# Altium footprint library liba.PcbLib: 7 footprints
Each footprint in its own frame and in the unit in brackets; x right, y up, seen from the top. Pads: shape width x height; smd on the part's side, far side on the other; paste and mask are expansions set on the pad; w line width, h text height; cw(c..) or ccw(c..) is an arc to the next point about the centre after c.
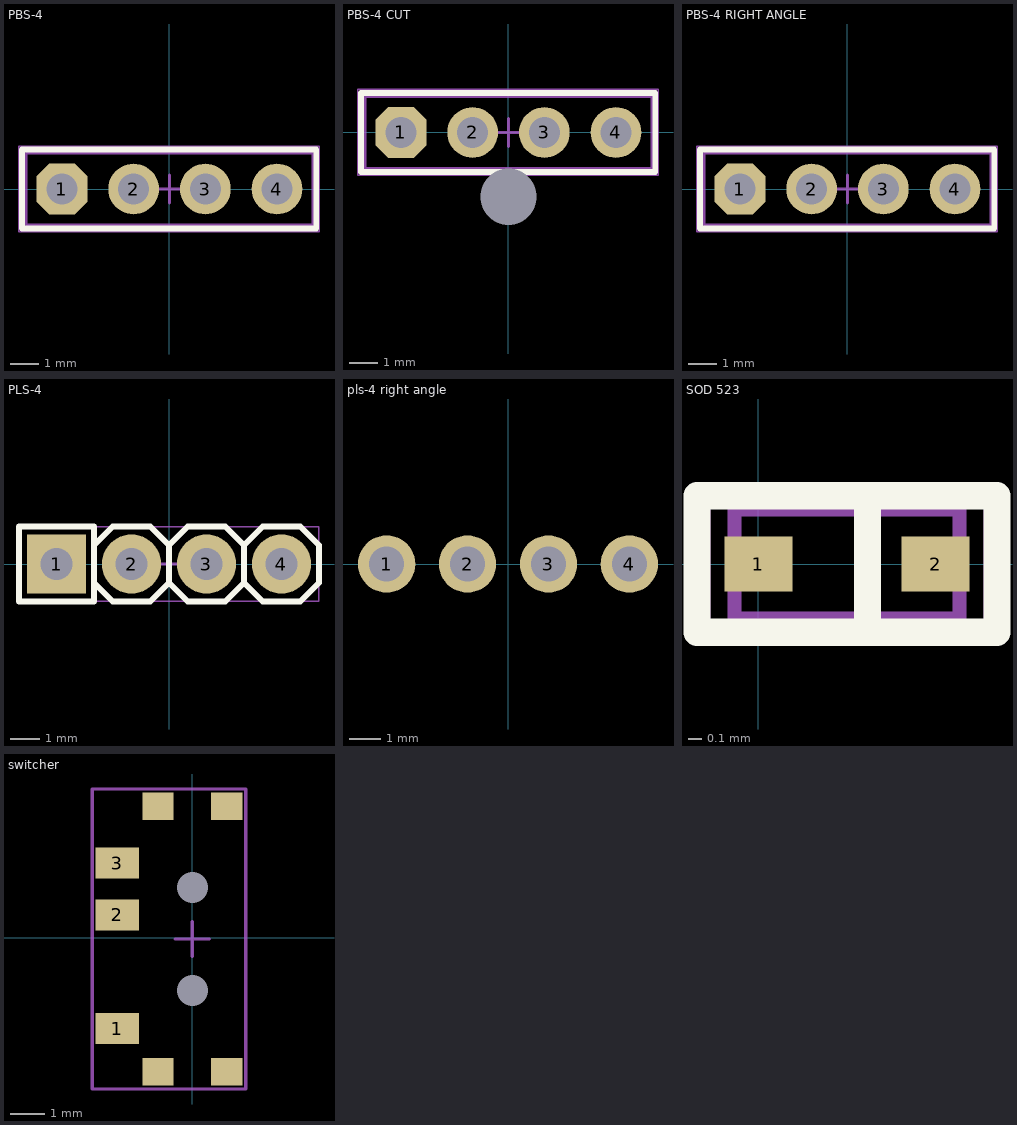
[diagram p0: the footprints below, top view; thin cyan lines are the x and y axes]

## PBS-4 [mm]
pads (4):
  oct 1.8x1.8 hole 1.1: 1(-3.81,0)
  round 1.8 hole 1.1: 2(-1.27,0) 3(1.27,0) 4(3.81,0)
Top Overlay:
  lines w0.2: -5.23,-1.4 5.2,-1.4 5.2,1.4 -5.23,1.4 -5.23,-1.4
Mechanical 1:
  lines w0.1: -5.08,-1.27 5.08,-1.27 5.08,1.27 -5.08,1.27 -5.08,-1.27
Mechanical 15:
  lines w0.05: -5.334,-1.524 -5.334,1.524 5.3,1.524 5.3,-1.524 -5.334,-1.524
  lines w0.1: -0.5,0 0.5,0 ; 0,-0.5 0,0.5 ; 0.77,0 1.77,0 ; 1.27,-0.5 1.27,0.5
3D body "PBS-04.STEP": height 8.4, standoff -3.2, extent -5.08,-1.27 5.08,1.27

## PBS-4 CUT [mm]
pads (5):
  oct 1.8x1.8 hole 1.1: 1(-3.81,0)
  round 1.8 hole 1.1: 2(-1.27,0) 3(1.27,0) 4(3.81,0)
  rrect50% 0x0 hole 2 square: ""(0,-2.28)
Top Overlay:
  lines w0.2: -5.23,-1.4 5.2,-1.4 5.2,1.4 -5.23,1.4 -5.23,-1.4
Mechanical 1:
  lines w0.1: -5.08,-1.27 5.08,-1.27 5.08,1.27 -5.08,1.27 -5.08,-1.27
Mechanical 15:
  lines w0.05: -5.334,-1.524 -5.334,1.524 5.3,1.524 5.3,-1.524 -5.334,-1.524
  lines w0.1: -0.5,0 0.5,0 ; 0,-0.5 0,0.5 ; 0.77,0 1.77,0 ; 1.27,-0.5 1.27,0.5
3D body "PBS-04.STEP": height 8.4, standoff -3.2, extent -5.08,-1.27 5.08,1.27

## PBS-4 RIGHT ANGLE [mm]
pads (4):
  oct 1.8x1.8 hole 1.1: 1(-3.81,0)
  round 1.8 hole 1.1: 2(-1.27,0) 3(1.27,0) 4(3.81,0)
Top Overlay:
  lines w0.2: -5.23,-1.4 5.2,-1.4 5.2,1.4 -5.23,1.4 -5.23,-1.4
Mechanical 1:
  lines w0.1: -5.08,-1.27 5.08,-1.27 5.08,1.27 -5.08,1.27 -5.08,-1.27
Mechanical 15:
  lines w0.05: -5.334,-1.524 -5.334,1.524 5.3,1.524 5.3,-1.524 -5.334,-1.524
  lines w0.1: -0.5,0 0.5,0 ; 0,-0.5 0,0.5 ; 0.77,0 1.77,0 ; 1.27,-0.5 1.27,0.5
3D body "User Library-PBS (DS1024).STEP": height 2.54, standoff -3.3, extent -5.08,-10.2 5.08,0

## PLS-4 [mm]
pads (4):
  rect 2x2 hole 1.1: 1(-3.81,0)
  round 2 hole 1.1: 2(-1.27,0) 3(1.27,0) 4(3.81,0)
Top Overlay:
  lines w0.2: -2.54,-0.635 -1.905,-1.27 -0.635,-1.27 0,-0.635 ; -2.54,0.635 -1.905,1.27 -0.635,1.27 0,0.635 ; 0,-0.635 0,0.635 ; 0,-0.635 0.635,-1.27 1.905,-1.27 2.54,-0.635 ; 0,0.635 0.635,1.27 1.905,1.27 2.54,0.635 ; 2.54,-0.635 2.54,0.635 ; 2.54,-0.635 3.175,-1.27 4.445,-1.27 5.08,-0.635 5.08,0.635 4.445,1.27 3.175,1.27 2.54,0.635 ; -5.08,-1.27 -5.08,1.27 -2.54,1.27 -2.54,-1.27 -5.08,-1.27
Mechanical 1:
  lines w0.1: -2.54,-0.635 -1.905,-1.27 -0.635,-1.27 0,-0.635 ; -2.54,0.635 -1.905,1.27 -0.635,1.27 0,0.635 ; 0,-0.635 0.635,-1.27 1.905,-1.27 2.54,-0.635 ; 0,-0.635 0,0.635 ; 0,0.635 0.635,1.27 1.905,1.27 2.54,0.635 ; 2.54,-0.635 3.175,-1.27 4.445,-1.27 5.08,-0.635 5.08,0.635 4.445,1.27 3.175,1.27 2.54,0.635 ; 2.54,-0.635 2.54,0.635 ; -5.08,-1.27 -2.54,-1.27 -2.54,1.27 -5.08,1.27 -5.08,-1.27
Mechanical 15:
  lines w0.05: -5.08,-1.27 5.08,-1.27 5.08,1.27 -5.08,1.27 -5.08,-1.27
  lines w0.1: -0.5,0 0.5,0 ; 0,-0.5 0,0.5
3D body "PLS-4.STEP": height 8.54, standoff -3, extent -5.08,-1.27 5.08,1.27

## pls-4 right angle [mm]
pads (4):
  round 1.8 hole 1.1: 1(-3.81,0) 2(-1.27,0) 3(1.27,0) 4(3.81,0)
3D body "pcb_connector_890-70-002-20-001101.stp": height 2.57, standoff -2.97, extent -5.04,-0.317 0.04,10.04
3D body "pcb_connector_890-70-002-20-001101.stp": height 2.57, standoff -2.97, extent 0.06,-0.318 5.14,10.04

## SOD 523 [mm]
pads (2):
  rect 0.5x0.4 smd: 1(0,0) 2(1.3,0)
Top Overlay:
  lines w0.2: 0.8,-0.4 0.8,0.5 ; -0.45,-0.5 1.75,-0.5 1.75,0.5 -0.45,0.5 -0.45,-0.5
Mechanical 1:
  lines w0.1: 0.8,-0.4 0.8,0.4 ; -0.175,-0.4 -0.175,0.4 1.4,0.4 1.475,0.4 1.475,-0.4 -0.175,-0.4
Mechanical 15:
  lines w0.1: -0.4,-0.5 1.7,-0.5 1.7,0.5 -0.4,0.5 -0.4,-0.5
3D body "User Library-SOD523-2.STEP": height 0.65, standoff 0, extent -0.175,-0.4 1.475,0.4

## switcher [mm] "SS-3292S-L1"
pads (9):
  rect 1.25x0.9 smd: 1(-2.175,-2.639) 2(-2.175,0.661) 3(-2.175,2.161)
  rect 0.9x0.8 smd: ""(-1,-3.889) ""(-1,3.811) ""(1,-3.889) ""(1,3.811)
  round 0 hole 0.9 unplated: ""(0,-1.539) ""(0,1.461)
Mechanical 15:
  lines w0.1: -0.5,-0.039 0.5,-0.039 ; 0,-0.539 0,0.461 ; -2.9,-4.389 -2.9,4.311 1.55,4.311 1.55,-4.389 -2.9,-4.389
3D body: height 6, standoff 2, extent -0.508,-1.333 0.254,0.572
3D body: height 2, standoff 0, extent -1.524,-4.381 1.524,4.382